# Altium integrated library Zilog Communication Interface.IntLib: 46 symbols (part 2 of 2)
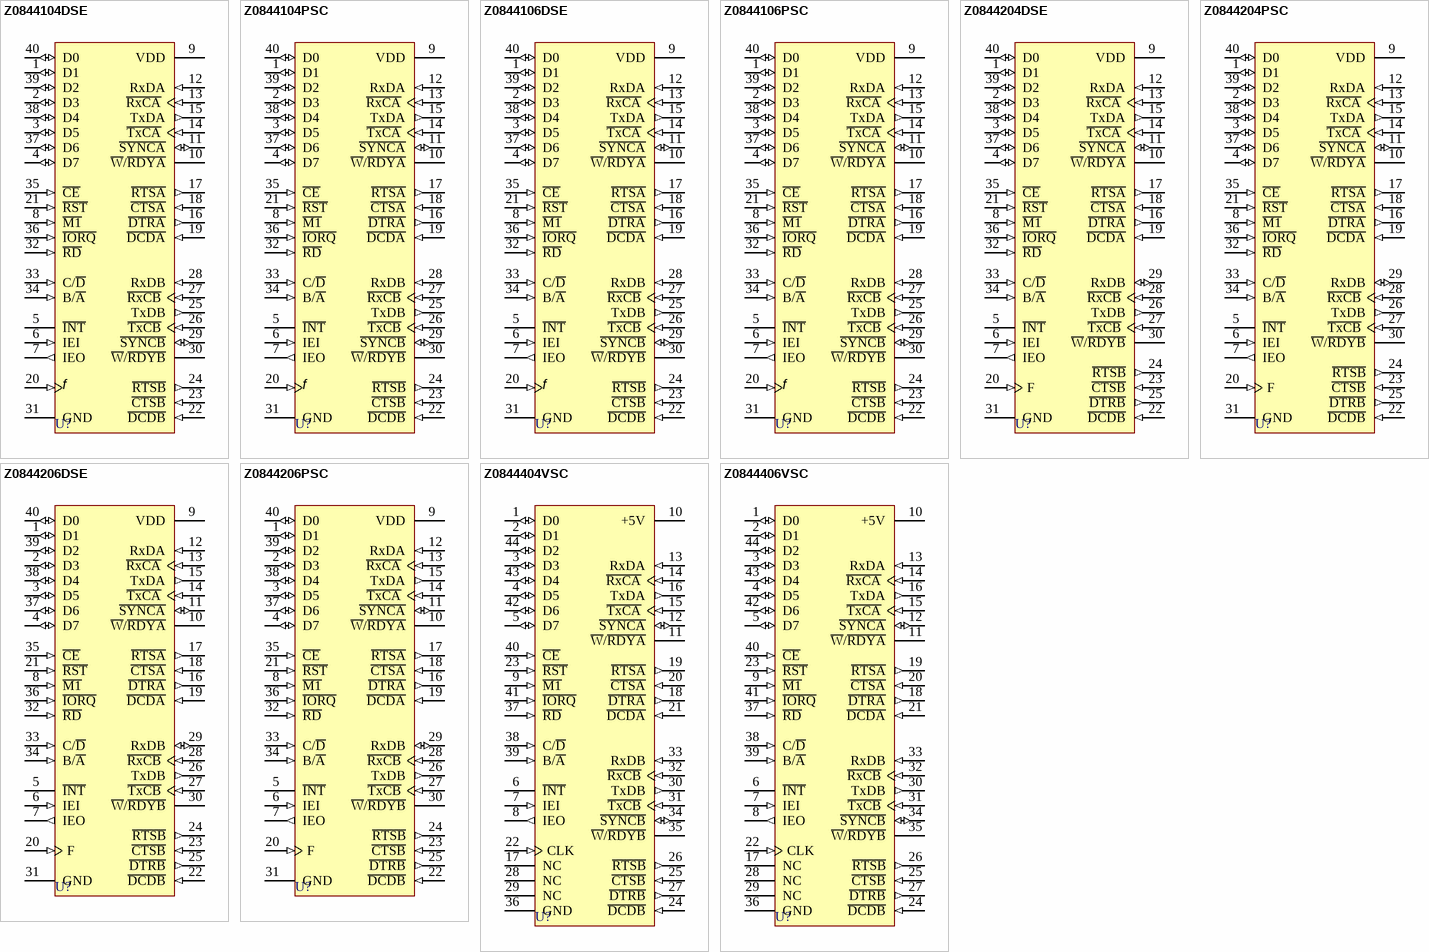
[diagram p3: symbols Z0844104DSE to Z0844406VSC]

## Z0844104PSC
designator U?
NMOS Serial I/O Controller; Published: 15-Apr-2002; LatestRevisionDate: 04-Mar-2005; LatestRevisionNote: Stylized 3D Model Added.; DatasheetVersion: 2001; PackageVersion: Jun-1999; PackageReference: PDIP40; Publisher: Altium Limited; PackageDescription: DIP; 40 Leads; Row Spacing 15.24 mm; Pitch 2.54 mm; ComponentLink1Description: Manufacturer Link; ComponentLink1URL: http://www.zilog.com/; ComponentLink2Description: Datasheet; ComponentLink2URL: http://www.zilog.com/docs/z80/um0081.pdf
footprint PDIP40 (DIP; 40 Leads; Row Spacing 15.24 mm; Pitch 2.54 mm)
3D model PDIP40 (DIP; 40 Leads; Row Spacing 15.24 mm; Pitch 2.54 mm)
pins: 1 D1 (io), 2 D3 (io), 3 D5 (io), 4 D7 (io), 5 ~{INT} (oc), 6 IEI (in), 7 IEO (out), 8 ~{M1} (in), 9 VDD (power), 10 ~{W}/~{RDYA} (oc), 11 ~{SYNCA} (io), 12 RxDA (in), 13 ~{RxCA} (in), 14 ~{TxCA} (in), 15 TxDA (out), 16 ~{DTRA} (out), 17 ~{RTSA} (out), 18 ~{CTSA} (in), 19 ~{DCDA} (in), 20 SYS CLK (in), 21 ~{RST} (in), 22 ~{DCDB} (in), 23 ~{CTSB} (in), 24 ~{RTSB} (out), 25 TxDB (out), 26 ~{TxCB} (in), 27 ~{RxCB} (in), 28 RxDB (in), 29 ~{SYNCB} (io), 30 ~{W}/~{RDYB} (oc), 31 GND (power), 32 ~{RD} (in), 33 C/~{D} (in), 34 B/~{A} (in), 35 ~{CE} (in), 36 ~{IORQ} (in), 37 D6 (io), 38 D4 (io), 39 D2 (io), 40 D0 (io)
text: f

## Z0844106DSE
designator U?
NMOS Serial I/O Controller; Published: 15-Apr-2002; LatestRevisionDate: 04-Mar-2005; LatestRevisionNote: Stylized 3D Model Added.; DatasheetVersion: 2001; PackageVersion: 1999; PackageReference: CerDIP40; Publisher: Altium Limited; PackageDescription: DIP; 40 Leads; Row Spacing 15.24 mm; Pitch 2.54 mm; ComponentLink1Description: Manufacturer Link; ComponentLink1URL: http://www.zilog.com/; ComponentLink2Description: Datasheet; ComponentLink2URL: http://www.zilog.com/docs/z80/um0081.pdf
footprint CerDIP40 (DIP; 40 Leads; Row Spacing 15.24 mm; Pitch 2.54 mm)
3D model PDIP40 (DIP; 40 Leads; Row Spacing 15.24 mm; Pitch 2.54 mm)
pins: 1 D1 (io), 2 D3 (io), 3 D5 (io), 4 D7 (io), 5 ~{INT} (oc), 6 IEI (in), 7 IEO (out), 8 ~{M1} (in), 9 VDD (power), 10 ~{W}/~{RDYA} (oc), 11 ~{SYNCA} (io), 12 RxDA (in), 13 ~{RxCA} (in), 14 ~{TxCA} (in), 15 TxDA (out), 16 ~{DTRA} (out), 17 ~{RTSA} (out), 18 ~{CTSA} (in), 19 ~{DCDA} (in), 20 SYS CLK (in), 21 ~{RST} (in), 22 ~{DCDB} (in), 23 ~{CTSB} (in), 24 ~{RTSB} (out), 25 TxDB (out), 26 ~{TxCB} (in), 27 ~{RxCB} (in), 28 RxDB (in), 29 ~{SYNCB} (io), 30 ~{W}/~{RDYB} (oc), 31 GND (power), 32 ~{RD} (in), 33 C/~{D} (in), 34 B/~{A} (in), 35 ~{CE} (in), 36 ~{IORQ} (in), 37 D6 (io), 38 D4 (io), 39 D2 (io), 40 D0 (io)
text: f

## Z0844106PSC
designator U?
NMOS Serial I/O Controller; Published: 15-Apr-2002; LatestRevisionDate: 04-Mar-2005; LatestRevisionNote: Stylized 3D Model Added.; DatasheetVersion: 2001; PackageVersion: Jun-1999; PackageReference: PDIP40; Publisher: Altium Limited; PackageDescription: DIP; 40 Leads; Row Spacing 15.24 mm; Pitch 2.54 mm; ComponentLink1Description: Manufacturer Link; ComponentLink1URL: http://www.zilog.com/; ComponentLink2Description: Datasheet; ComponentLink2URL: http://www.zilog.com/docs/z80/um0081.pdf
footprint PDIP40 (DIP; 40 Leads; Row Spacing 15.24 mm; Pitch 2.54 mm)
3D model PDIP40 (DIP; 40 Leads; Row Spacing 15.24 mm; Pitch 2.54 mm)
pins: 1 D1 (io), 2 D3 (io), 3 D5 (io), 4 D7 (io), 5 ~{INT} (oc), 6 IEI (in), 7 IEO (out), 8 ~{M1} (in), 9 VDD (power), 10 ~{W}/~{RDYA} (oc), 11 ~{SYNCA} (io), 12 RxDA (in), 13 ~{RxCA} (in), 14 ~{TxCA} (in), 15 TxDA (out), 16 ~{DTRA} (out), 17 ~{RTSA} (out), 18 ~{CTSA} (in), 19 ~{DCDA} (in), 20 SYS CLK (in), 21 ~{RST} (in), 22 ~{DCDB} (in), 23 ~{CTSB} (in), 24 ~{RTSB} (out), 25 TxDB (out), 26 ~{TxCB} (in), 27 ~{RxCB} (in), 28 RxDB (in), 29 ~{SYNCB} (io), 30 ~{W}/~{RDYB} (oc), 31 GND (power), 32 ~{RD} (in), 33 C/~{D} (in), 34 B/~{A} (in), 35 ~{CE} (in), 36 ~{IORQ} (in), 37 D6 (io), 38 D4 (io), 39 D2 (io), 40 D0 (io)
text: f

## Z0844204DSE
designator U?
NMOS Serial I/O Controller; Published: 15-Apr-2002; LatestRevisionDate: 04-Mar-2005; LatestRevisionNote: Stylized 3D Model Added.; DatasheetVersion: 2001; PackageVersion: 1999; PackageReference: CerDIP40; Publisher: Altium Limited; PackageDescription: DIP; 40 Leads; Row Spacing 15.24 mm; Pitch 2.54 mm; ComponentLink1Description: Manufacturer Link; ComponentLink1URL: http://www.zilog.com/; ComponentLink2Description: Datasheet; ComponentLink2URL: http://www.zilog.com/docs/z80/um0081.pdf
footprint CerDIP40 (DIP; 40 Leads; Row Spacing 15.24 mm; Pitch 2.54 mm)
3D model PDIP40 (DIP; 40 Leads; Row Spacing 15.24 mm; Pitch 2.54 mm)
pins: 1 D1 (io), 2 D3 (io), 3 D5 (io), 4 D7 (io), 5 ~{INT} (oc), 6 IEI (in), 7 IEO (out), 8 ~{M1} (in), 9 VDD (power), 10 ~{W}/~{RDYA} (oc), 11 ~{SYNCA} (io), 12 RxDA (in), 13 ~{RxCA} (in), 14 ~{TxCA} (in), 15 TxDA (out), 16 ~{DTRA} (out), 17 ~{RTSA} (out), 18 ~{CTSA} (in), 19 ~{DCDA} (in), 20 F (in), 21 ~{RST} (in), 22 ~{DCDB} (in), 23 ~{CTSB} (in), 24 ~{RTSB} (out), 25 ~{DTRB} (out), 26 TxDB (out), 27 ~{TxCB} (in), 28 ~{RxCB} (in), 29 RxDB (io), 30 ~{W}/~{RDYB} (oc), 31 GND (power), 32 ~{RD} (in), 33 C/~{D} (in), 34 B/~{A} (in), 35 ~{CE} (in), 36 ~{IORQ} (in), 37 D6 (io), 38 D4 (io), 39 D2 (io), 40 D0 (io)

## Z0844204PSC
designator U?
NMOS Serial I/O Controller; Published: 15-Apr-2002; LatestRevisionDate: 04-Mar-2005; LatestRevisionNote: Stylized 3D Model Added.; DatasheetVersion: 2001; PackageVersion: Jun-1999; PackageReference: PDIP40; Publisher: Altium Limited; PackageDescription: DIP; 40 Leads; Row Spacing 15.24 mm; Pitch 2.54 mm; ComponentLink1Description: Manufacturer Link; ComponentLink1URL: http://www.zilog.com/; ComponentLink2Description: Datasheet; ComponentLink2URL: http://www.zilog.com/docs/z80/um0081.pdf
footprint PDIP40 (DIP; 40 Leads; Row Spacing 15.24 mm; Pitch 2.54 mm)
3D model PDIP40 (DIP; 40 Leads; Row Spacing 15.24 mm; Pitch 2.54 mm)
pins: 1 D1 (io), 2 D3 (io), 3 D5 (io), 4 D7 (io), 5 ~{INT} (oc), 6 IEI (in), 7 IEO (out), 8 ~{M1} (in), 9 VDD (power), 10 ~{W}/~{RDYA} (oc), 11 ~{SYNCA} (io), 12 RxDA (in), 13 ~{RxCA} (in), 14 ~{TxCA} (in), 15 TxDA (out), 16 ~{DTRA} (out), 17 ~{RTSA} (out), 18 ~{CTSA} (in), 19 ~{DCDA} (in), 20 F (in), 21 ~{RST} (in), 22 ~{DCDB} (in), 23 ~{CTSB} (in), 24 ~{RTSB} (out), 25 ~{DTRB} (out), 26 TxDB (out), 27 ~{TxCB} (in), 28 ~{RxCB} (in), 29 RxDB (io), 30 ~{W}/~{RDYB} (oc), 31 GND (power), 32 ~{RD} (in), 33 C/~{D} (in), 34 B/~{A} (in), 35 ~{CE} (in), 36 ~{IORQ} (in), 37 D6 (io), 38 D4 (io), 39 D2 (io), 40 D0 (io)

## Z0844206DSE
designator U?
NMOS Serial I/O Controller; Published: 15-Apr-2002; LatestRevisionDate: 04-Mar-2005; LatestRevisionNote: Stylized 3D Model Added.; DatasheetVersion: 2001; PackageVersion: 1999; PackageReference: CerDIP40; Publisher: Altium Limited; PackageDescription: DIP; 40 Leads; Row Spacing 15.24 mm; Pitch 2.54 mm; ComponentLink1Description: Manufacturer Link; ComponentLink1URL: http://www.zilog.com/; ComponentLink2Description: Datasheet; ComponentLink2URL: http://www.zilog.com/docs/z80/um0081.pdf
footprint CerDIP40 (DIP; 40 Leads; Row Spacing 15.24 mm; Pitch 2.54 mm)
3D model PDIP40 (DIP; 40 Leads; Row Spacing 15.24 mm; Pitch 2.54 mm)
pins: 1 D1 (io), 2 D3 (io), 3 D5 (io), 4 D7 (io), 5 ~{INT} (oc), 6 IEI (in), 7 IEO (out), 8 ~{M1} (in), 9 VDD (power), 10 ~{W}/~{RDYA} (oc), 11 ~{SYNCA} (io), 12 RxDA (in), 13 ~{RxCA} (in), 14 ~{TxCA} (in), 15 TxDA (out), 16 ~{DTRA} (out), 17 ~{RTSA} (out), 18 ~{CTSA} (in), 19 ~{DCDA} (in), 20 F (in), 21 ~{RST} (in), 22 ~{DCDB} (in), 23 ~{CTSB} (in), 24 ~{RTSB} (out), 25 ~{DTRB} (out), 26 TxDB (out), 27 ~{TxCB} (in), 28 ~{RxCB} (in), 29 RxDB (io), 30 ~{W}/~{RDYB} (oc), 31 GND (power), 32 ~{RD} (in), 33 C/~{D} (in), 34 B/~{A} (in), 35 ~{CE} (in), 36 ~{IORQ} (in), 37 D6 (io), 38 D4 (io), 39 D2 (io), 40 D0 (io)

## Z0844206PSC
designator U?
NMOS Serial I/O Controller; Published: 15-Apr-2002; LatestRevisionDate: 04-Mar-2005; LatestRevisionNote: Stylized 3D Model Added.; DatasheetVersion: 2001; PackageVersion: Jun-1999; PackageReference: PDIP40; Publisher: Altium Limited; PackageDescription: DIP; 40 Leads; Row Spacing 15.24 mm; Pitch 2.54 mm; ComponentLink1Description: Manufacturer Link; ComponentLink1URL: http://www.zilog.com/; ComponentLink2Description: Datasheet; ComponentLink2URL: http://www.zilog.com/docs/z80/um0081.pdf
footprint PDIP40 (DIP; 40 Leads; Row Spacing 15.24 mm; Pitch 2.54 mm)
3D model PDIP40 (DIP; 40 Leads; Row Spacing 15.24 mm; Pitch 2.54 mm)
pins: 1 D1 (io), 2 D3 (io), 3 D5 (io), 4 D7 (io), 5 ~{INT} (oc), 6 IEI (in), 7 IEO (out), 8 ~{M1} (in), 9 VDD (power), 10 ~{W}/~{RDYA} (oc), 11 ~{SYNCA} (io), 12 RxDA (in), 13 ~{RxCA} (in), 14 ~{TxCA} (in), 15 TxDA (out), 16 ~{DTRA} (out), 17 ~{RTSA} (out), 18 ~{CTSA} (in), 19 ~{DCDA} (in), 20 F (in), 21 ~{RST} (in), 22 ~{DCDB} (in), 23 ~{CTSB} (in), 24 ~{RTSB} (out), 25 ~{DTRB} (out), 26 TxDB (out), 27 ~{TxCB} (in), 28 ~{RxCB} (in), 29 RxDB (io), 30 ~{W}/~{RDYB} (oc), 31 GND (power), 32 ~{RD} (in), 33 C/~{D} (in), 34 B/~{A} (in), 35 ~{CE} (in), 36 ~{IORQ} (in), 37 D6 (io), 38 D4 (io), 39 D2 (io), 40 D0 (io)

## Z0844404VSC
designator U?
NMOS Serial I/O Controller; Published: 15-Apr-2002; LatestRevisionDate: 13-Apr-2006; LatestRevisionNote: IPC-7351 Footprint Added.; DatasheetVersion: 2001; PackageReference: PCC44; Publisher: Altium Limited; PackageDescription: 44-Pin Leaded Chip Carrier 1.27 mm Pitch; Code_IPC: PLCC-44; ComponentLink1Description: Manufacturer Link; ComponentLink1URL: http://www.zilog.com/; ComponentLink2Description: Datasheet; ComponentLink2URL: http://www.zilog.com/docs/z80/um0081.pdf
footprint PCC44_N (Leaded Chip Carrier, 44-Leads, Body 16.6x16.6mm, Pitch 1.27mm, IPC Medium Density)
footprint PCC44_L (Leaded Chip Carrier, 44-Leads, Body 16.6x16.6mm, Pitch 1.27mm, IPC High Density)
footprint PCC44_M (Leaded Chip Carrier, 44-Leads, Body 16.6x16.6mm, Pitch 1.27mm, IPC Low Density)
3D model Z08444-PCC44 (44-Pin Leaded Chip Carrier 1.27 mm Pitch)
pins: 1 D0 (io), 2 D1 (io), 3 D3 (io), 4 D5 (io), 5 D7 (io), 6 ~{INT} (oc), 7 IEI (in), 8 IEO (out), 9 ~{M1} (in), 10 +5V (power), 11 ~{W}/~{RDYA} (oc), 12 ~{SYNCA} (io), 13 RxDA (in), 14 ~{RxCA} (in), 15 ~{TxCA} (in), 16 TxDA (out), 17 NC, 18 ~{DTRA} (out), 19 ~{RTSA} (out), 20 ~{CTSA} (in), 21 ~{DCDA} (in), 22 CLK (in), 23 ~{RST} (in), 24 ~{DCDB} (in), 25 ~{CTSB} (in), 26 ~{RTSB} (out), 27 ~{DTRB} (out), 28 NC, 29 NC, 30 TxDB (out), 31 ~{TxCB} (in), 32 ~{RxCB} (in), 33 RxDB (in), 34 ~{SYNCB} (io), 35 ~{W}/~{RDYB} (oc), 36 GND (power), 37 ~{RD} (in), 38 C/~{D} (in), 39 B/~{A} (in), 40 ~{CE} (in), 41 ~{IORQ} (in), 42 D6 (io), 43 D4 (io), 44 D2 (io)

## Z0844406VSC
designator U?
NMOS Serial I/O Controller; Published: 15-Apr-2002; LatestRevisionDate: 13-Apr-2006; LatestRevisionNote: IPC-7351 Footprint Added.; DatasheetVersion: 2001; PackageReference: PCC44; Publisher: Altium Limited; PackageDescription: 44-Pin Leaded Chip Carrier 1.27 mm Pitch; Code_IPC: PLCC-44; ComponentLink1Description: Manufacturer Link; ComponentLink1URL: http://www.zilog.com/; ComponentLink2Description: Datasheet; ComponentLink2URL: http://www.zilog.com/docs/z80/um0081.pdf
footprint PCC44_N (Leaded Chip Carrier, 44-Leads, Body 16.6x16.6mm, Pitch 1.27mm, IPC Medium Density)
footprint PCC44_L (Leaded Chip Carrier, 44-Leads, Body 16.6x16.6mm, Pitch 1.27mm, IPC High Density)
footprint PCC44_M (Leaded Chip Carrier, 44-Leads, Body 16.6x16.6mm, Pitch 1.27mm, IPC Low Density)
3D model Z08444-PCC44 (44-Pin Leaded Chip Carrier 1.27 mm Pitch)
pins: 1 D0 (io), 2 D1 (io), 3 D3 (io), 4 D5 (io), 5 D7 (io), 6 ~{INT} (oc), 7 IEI (in), 8 IEO (out), 9 ~{M1} (in), 10 +5V (power), 11 ~{W}/~{RDYA} (oc), 12 ~{SYNCA} (io), 13 RxDA (in), 14 ~{RxCA} (in), 15 ~{TxCA} (in), 16 TxDA (out), 17 NC, 18 ~{DTRA} (out), 19 ~{RTSA} (out), 20 ~{CTSA} (in), 21 ~{DCDA} (in), 22 CLK (in), 23 ~{RST} (in), 24 ~{DCDB} (in), 25 ~{CTSB} (in), 26 ~{RTSB} (out), 27 ~{DTRB} (out), 28 NC, 29 NC, 30 TxDB (out), 31 ~{TxCB} (in), 32 ~{RxCB} (in), 33 RxDB (in), 34 ~{SYNCB} (io), 35 ~{W}/~{RDYB} (oc), 36 GND (power), 37 ~{RD} (in), 38 C/~{D} (in), 39 B/~{A} (in), 40 ~{CE} (in), 41 ~{IORQ} (in), 42 D6 (io), 43 D4 (io), 44 D2 (io)